# EAGLE library part RPI_ZERO (library parts)
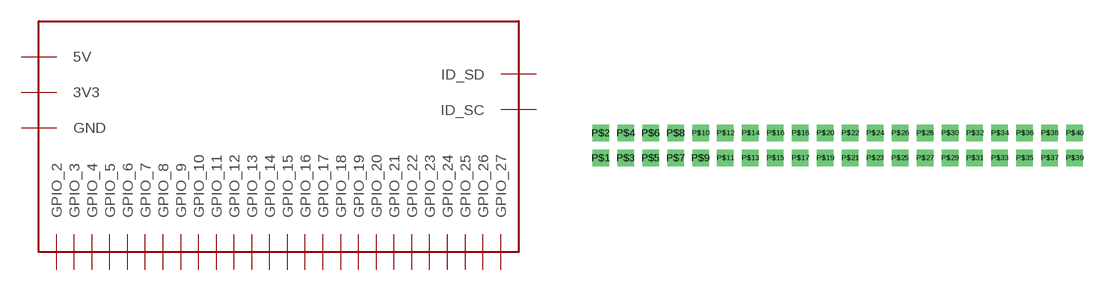
[diagram p0: symbol with the pads of 2X20_HEADER; footprint 2X20_HEADER]

Designator prefix -

## RPI_ZERO  [2X20_HEADER]
P$1  3V3
P$2  5V
P$3  GPIO_2
P$4  5V
P$5  GPIO_3
P$6  GND
P$7  GPIO_4
P$8  GPIO_14
P$9  GND
P$10  GPIO_15
P$11  GPIO_17
P$12  GPIO_18
P$13  GPIO_27
P$14  GND
P$15  GPIO_22
P$16  GPIO_23
P$17  3V3
P$18  GPIO_24
P$19  GPIO_10
P$20  GND
P$21  GPIO_9
P$22  GPIO_25
P$23  GPIO_11
P$24  GPIO_8
P$25  GND
P$26  GPIO_7
P$27  ID_SD
P$28  ID_SC
P$29  GPIO_5
P$30  GND
P$31  GPIO_6
P$32  GPIO_12
P$33  GPIO_13
P$34  GND
P$35  GPIO_19
P$36  GPIO_16
P$37  GPIO_26
P$38  GPIO_20
P$39  GND
P$40  GPIO_21

## Footprint 2X20_HEADER (pad centres in mm)
drill 1.016 pad 1.676 square: P$1 -22.86,-1.27; P$2 -22.86,1.27; P$3 -20.32,-1.27; P$4 -20.32,1.27; P$5 -17.78,-1.27; P$6 -17.78,1.27; P$7 -15.24,-1.27; P$8 -15.24,1.27; P$9 -12.7,-1.27; P$10 -12.7,1.27; P$11 -10.16,-1.27; P$12 -10.16,1.27; P$13 -7.62,-1.27; P$14 -7.62,1.27; P$15 -5.08,-1.27; P$16 -5.08,1.27; P$17 -2.54,-1.27; P$18 -2.54,1.27; P$19 0,-1.27; P$20 0,1.27; P$21 2.54,-1.27; P$22 2.54,1.27; P$23 5.08,-1.27; P$24 5.08,1.27; P$25 7.62,-1.27; P$26 7.62,1.27; P$27 10.16,-1.27; P$28 10.16,1.27; P$29 12.7,-1.27; P$30 12.7,1.27; P$31 15.24,-1.27; P$32 15.24,1.27; P$33 17.78,-1.27; P$34 17.78,1.27; P$35 20.32,-1.27; P$36 20.32,1.27; P$37 22.86,-1.27; P$38 22.86,1.27; P$39 25.4,-1.27; P$40 25.4,1.27